# Altium schematic symbol library C_2P_NP.Schlib: 1 symbol
Pins are listed as number, name and electrical type; pins without a type are passive.

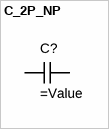
[diagram p0: symbol C_2P_NP]

## C_2P_NP
designator C?
pins: 1, 2 1